# Altium schematic symbol library Components.SchLib: 6 symbols
Pins are listed as number, name and electrical type; pins without a type are passive.

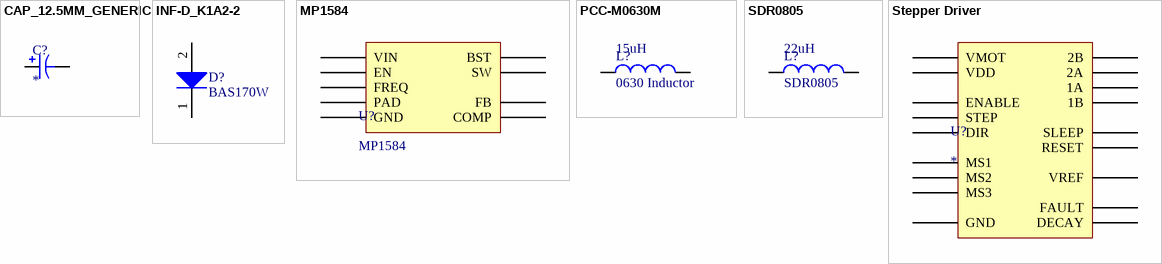
[diagram p0: symbols CAP_12.5MM_GENERIC to Stepper Driver]

## CAP_12.5MM_GENERIC
designator C?
Generic electrolytic capacitor w/ 12.5mm diameter and 5mm pitch
footprint CAP_12.5mm
pins: 0, 1

## INF-D_K1A2-2
designator D?, comment BAS170W
Silicon Schottky Diode, -55 to 125 degC, SOD323, Reel, Green; Manufacturer: Infineon; Green: TRUE; VF (max): 1,000Â mV; VR (max): 70Â V; Configuration: Single; CT (max): 2Â pF; IF (max): 70Â mA; PackageReference: SOD323; PartNumber: BAS170W; ComponentLink3URL: http://www.infineon.com/dgdl/SOD323-Package_Overview.pdf?folderId=db3a30431936bc4b011952aab84f3bbe&fileId=db3a30431936bc4b011952beed653be3; PackageDescription: 2-Pin Small Outline Diode Package, 1.25 x 1.7 mm Body; ComponentLink2URL: http://www.infineon.com/dgdl/bas70_bas170series.pdf?folderId=db3a30431400ef68011425f1ca2505e3&fileId=db3a304314dca389011518ad41680e12; ComponentLink3Description: Package Specification; ComponentLink1URL: http://www.infineon.com/; ComponentLink1Description: Manufacturer URL; Packing: Reel; ComponentLink2Description: Datasheet; Mounting Technology: Surface Mount
footprint INF-SOD323_V (SOD, 2-Leads, Body 1.7x1.25 mm)
pins: 1 K, 2 A

## MP1584
designator U?
MP1584 3A, 1.5MHz, 28V Step-Down Converter
footprint SOIC8E (SOIC, 8-Leads, Body 4.90x3.90mm, Pitch 1.27mm, Thermal Pad 3.45x2.56mm, IPC Medium Density)
pins: 1 SW, 2 EN, 3 COMP, 4 FB, 5 GND, 6 FREQ, 7 VIN, 8 BST, 9 PAD

## PCC-M0630M
designator L?, comment 0630 Inductor  value 15uH
Code_IEC: 1005; Published: 8-Jun-2000; LatestRevisionDate: 29-May-2009; LatestRevisionNote: IPC-7351 Footprint Added.; PackageReference: 0402-A; Publisher: Altium Limited; PackageDescription: Chip Inductor; Code_JEITA: 0402
simulation model INDUCTOR (Inductor)
signal-integrity model Inductor
footprint 0630 Inductor (Precision Wire Wound Inductor, 2-Leads, Body 7.40x7.00mm, IPC Medium Density)
pins: 1, 2

## SDR0805
designator L?  value 22uH
Inductor; Code_IEC: 1005; Published: 8-Jun-2000; LatestRevisionDate: 29-May-2009; LatestRevisionNote: IPC-7351 Footprint Added.; PackageReference: 0402-A; Publisher: Altium Limited; PackageDescription: Chip Inductor; Code_JEITA: 0402
simulation model INDUCTOR (Inductor)
signal-integrity model Inductor
footprint SDR0805-180ML
footprint IHLP-4040DZ-51
pins: 1, 2

## Stepper Driver
designator U?
footprint SureStepr
footprint SureStepr - vREF
footprint StepStick
pins: 1A, 1B, 2A, 2B, DECAY, DIR, ENABLE, FAULT, GND, MS1, MS2, MS3, RESET, SLEEP, STEP, VDD, VMOT, VREF